# Altium schematic symbol library MB1005.Schlib: 1 symbol
Pins are listed as number, name and electrical type; pins without a type are passive.

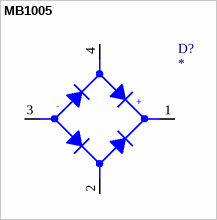
[diagram p0: symbol MB1005]

## MB1005
designator D?
Through Hole Bridge Rectifier 50A
pins: 1 DC OUT PLUS, 2 AC IN 1, 3 DC OUT MINUS, 4 AC IN 2
text: -; +